# Altium footprint library Transistors.PcbLib: 4 footprints
Each footprint in its own frame and in the unit in brackets; x right, y up, seen from the top. Pads: shape width x height; smd on the part's side, far side on the other; paste and mask are expansions set on the pad; w line width, h text height; cw(c..) or ccw(c..) is an arc to the next point about the centre after c.
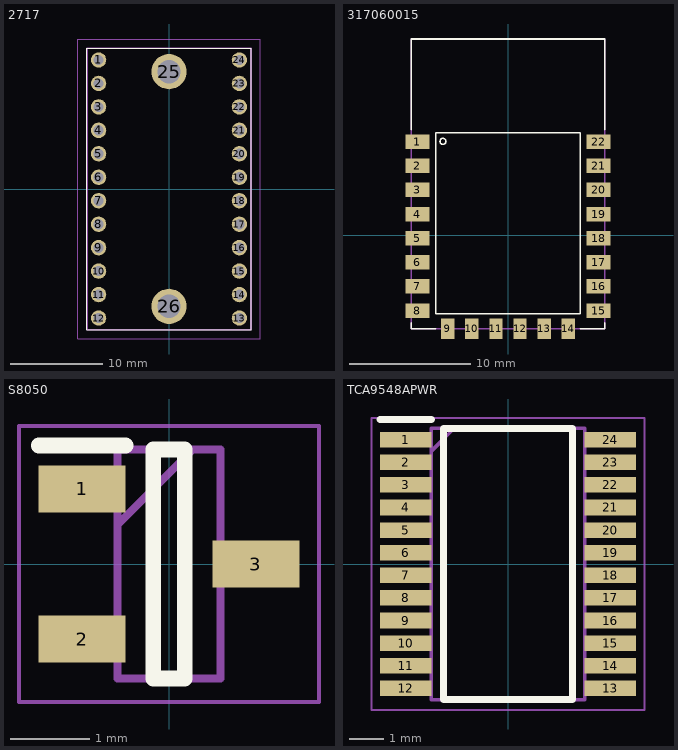
[diagram p0: the footprints below, top view; thin cyan lines are the x and y axes]

## 2717 [mm] "TCA9548A I2C MULTIPLEXER BOARD"
pads (26):
  round 1.665 hole 1.11: 1(-7.62,13.97) 2(-7.62,11.43) 3(-7.62,8.89) 4(-7.62,6.35) 5(-7.62,3.81) 6(-7.62,1.27) 7(-7.62,-1.27) 8(-7.62,-3.81) 9(-7.62,-6.35) 10(-7.62,-8.89) 11(-7.62,-11.43) 12(-7.62,-13.97) 13(7.62,-13.97) 14(7.62,-11.43) 15(7.62,-8.89) 16(7.62,-6.35) 17(7.62,-3.81) 18(7.62,-1.27) 19(7.62,1.27) 20(7.62,3.81) 21(7.62,6.35) 22(7.62,8.89) 23(7.62,11.43) 24(7.62,13.97)
  round 3.81 hole 2.54: 25(0,12.7) 26(0,-12.7)
Top Overlay:
  lines w0.1: -8.89,-15.24 8.89,-15.24 8.89,15.24 -8.89,15.24 -8.89,-15.24
Mechanical 13:
  lines w0.2: -8.89,-15.24 8.89,-15.24 8.89,15.24 -8.89,15.24 -8.89,-15.24
Mechanical 15:
  lines w0.1: -9.89,-16.24 9.89,-16.24 9.89,16.24 -9.89,16.24 -9.89,-16.24
3D body "2717.stp": height 1.1, standoff -5, extent -8.89,-15.24 8.89,15.24

## 317060015 [mm] "ESP_12_E"
pads (22):
  rect 2x1.2 smd: 1(-7.5,7.75) 2(-7.5,5.75) 3(-7.5,3.75) 4(-7.5,1.75) 5(-7.5,-0.25) 6(-7.5,-2.25) 7(-7.5,-4.25) 8(-7.5,-6.25) 15(7.5,-6.25) 16(7.5,-4.25) 17(7.5,-2.25) 18(7.5,-0.25) 19(7.5,1.75) 20(7.5,3.75) 21(7.5,5.75) 22(7.5,7.75)
  rect 1.1x1.7 smd: 9(-5,-7.75) 10(-3,-7.75) 11(-1,-7.75) 12(1,-7.75) 13(3,-7.75) 14(5,-7.75)
Top Overlay:
  circle w0.127: c-5.385,7.772 r0.25
  lines w0.127: -8,-7.25 -8,-7.75 -6,-7.75 ; -8,8.75 -8,16.25 8,16.25 8,8.75 ; 6,-7.75 8,-7.75 8,-7.25 ; -6,-6.51 6,-6.51 6,8.49 -6,8.49 -6,-6.51
Mechanical 13:
  lines w0.127: -8,-7.75 8,-7.75 8,16.25 -8,16.25 -8,-7.75
3D body "ESP8266-12E-ESP-12E--3DModel-STEP-1.STEP": height 3, standoff 0, extent -7.999,-7.769 8.001,16.231

## S8050 [mm] "SOT95P240X115-3N"
pads (3):
  rect 1.1x0.6 smd: 1(-1.1,0.95) 2(-1.1,-0.95) 3(1.1,0)
Top Overlay:
  lines w0.2: -1.65,1.5 -0.55,1.5 ; -0.2,-1.45 -0.2,1.45 0.2,1.45 0.2,-1.45 -0.2,-1.45
Mechanical 13:
  lines w0.1: -0.65,0.5 0.3,1.45 ; -0.65,-1.45 -0.65,1.45 0.65,1.45 0.65,-1.45 -0.65,-1.45
Mechanical 15:
  lines w0.05: -1.9,-1.75 -1.9,1.75 1.9,1.75 1.9,-1.75 -1.9,-1.75
3D body "S8050.stp": height 1.15, standoff 0, extent -1.2,-1.45 1.2,1.45

## TCA9548APWR [mm] "IC BUS SWITCH 1 X 8:1 24TSSOP"
pads (24):
  rect 1.475x0.45 smd: 1(-2.938,3.575) 2(-2.938,2.925) 3(-2.938,2.275) 4(-2.938,1.625) 5(-2.938,0.975) 6(-2.938,0.325) 7(-2.938,-0.325) 8(-2.938,-0.975) 9(-2.938,-1.625) 10(-2.938,-2.275) 11(-2.938,-2.925) 12(-2.938,-3.575) 13(2.938,-3.575) 14(2.938,-2.925) 15(2.938,-2.275) 16(2.938,-1.625) 17(2.938,-0.975) 18(2.938,-0.325) 19(2.938,0.325) 20(2.938,0.975) 21(2.938,1.625) 22(2.938,2.275) 23(2.938,2.925) 24(2.938,3.575)
Top Overlay:
  lines w0.2: -3.675,4.15 -2.2,4.15 ; -1.85,-3.9 1.85,-3.9 1.85,3.9 -1.85,3.9 -1.85,-3.9
Mechanical 13:
  lines w0.1: -2.2,3.25 -1.55,3.9 ; -2.2,-3.9 2.2,-3.9 2.2,3.9 -2.2,3.9 -2.2,-3.9
Mechanical 15:
  lines w0.05: -3.925,-4.2 3.925,-4.2 3.925,4.2 -3.925,4.2 -3.925,-4.2
3D body "TCA9548APWR.stp": height 1.13, standoff 0, extent -3.2,-3.9 3.2,3.9